# Altium footprint library TE 3-794677-8.PcbLib: 1 footprints
Each footprint in its own frame and in the unit in brackets; x right, y up, seen from the top. Pads: shape width x height; smd on the part's side, far side on the other; paste and mask are expansions set on the pad; w line width, h text height; cw(c..) or ccw(c..) is an arc to the next point about the centre after c.
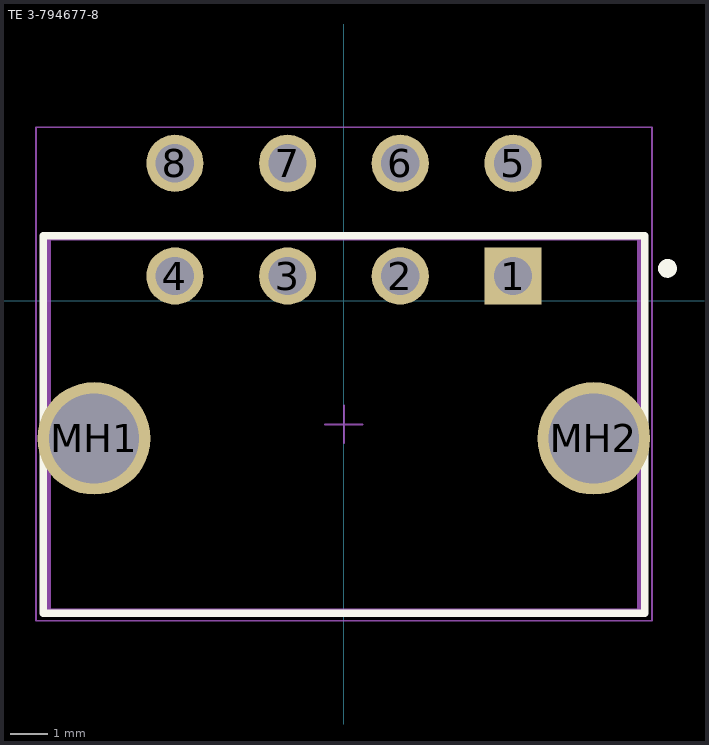
[diagram p0: the footprint, top view; thin cyan lines are the x and y axes]

## TE 3-794677-8 [mm] "Dual row Right angle header With plastic peg 08p"
height 8.76
pads (10):
  rect 1.52x1.52 hole 1.02: 1(4.5,0.66)
  round 1.52 hole 1.02: 2(1.5,0.66) 3(-1.5,0.66) 4(-4.5,0.66) 5(4.5,3.66) 6(1.5,3.66) 7(-1.5,3.66) 8(-4.5,3.66)
  round 3 hole 2.4 unplated: MH1(-6.65,-3.66) MH2(6.65,-3.66)
Top Overlay:
  circle w0.25: c8.611,0.864 r0.125
  lines w0.2: -8,-8.315 -8,1.735 8,1.735 8,-8.315 -8,-8.315
Mechanical 13:
  lines w0.1: -7.85,-8.24 7.85,-8.24 7.85,1.66 -7.85,1.66 -7.85,-8.24
Mechanical 15:
  lines w0.05: -0.5,-3.29 0.5,-3.29 ; 0,-3.79 0,-2.79 ; -8.2,-8.515 -8.2,4.62 8.2,4.62 8.2,-8.515 -8.2,-8.515
3D body "c-3-794677-8-j-3d.stp": height 8.73, standoff -2.99, extent -8,-8.278 8,3.962